# EAGLE library part LMR14203 (library Bat-Components)
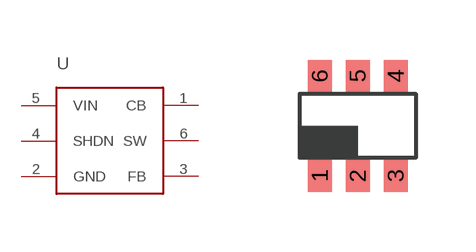
[diagram p9: symbol with the pads of TSOT23-6_DDC; footprint TSOT23-6_DDC]

Designator prefix -

## LMR14203SOT223  [TSOT23-6_DDC]
1  CB
2  GND
3  FB
4  SHDN
5  VIN
6  SW

## Footprint TSOT23-6_DDC (pad centres in mm)
DDC (R-PDSO-G6) PLASTIC SMALL OUTLINE PACKAGE Source: http://focus.ti.com/lit/ds/symlink/tps61070.pdf
smd 0.6 x 0.8: 1 -0.95,-1.25; 2 0,-1.25; 3 0.95,-1.25; 4 0.95,1.25; 5 0,1.25; 6 -0.95,1.25